# Altium schematic symbol library analog_opamp.SchLib: 10 symbols
Pins are listed as number, name and electrical type; pins without a type are passive.

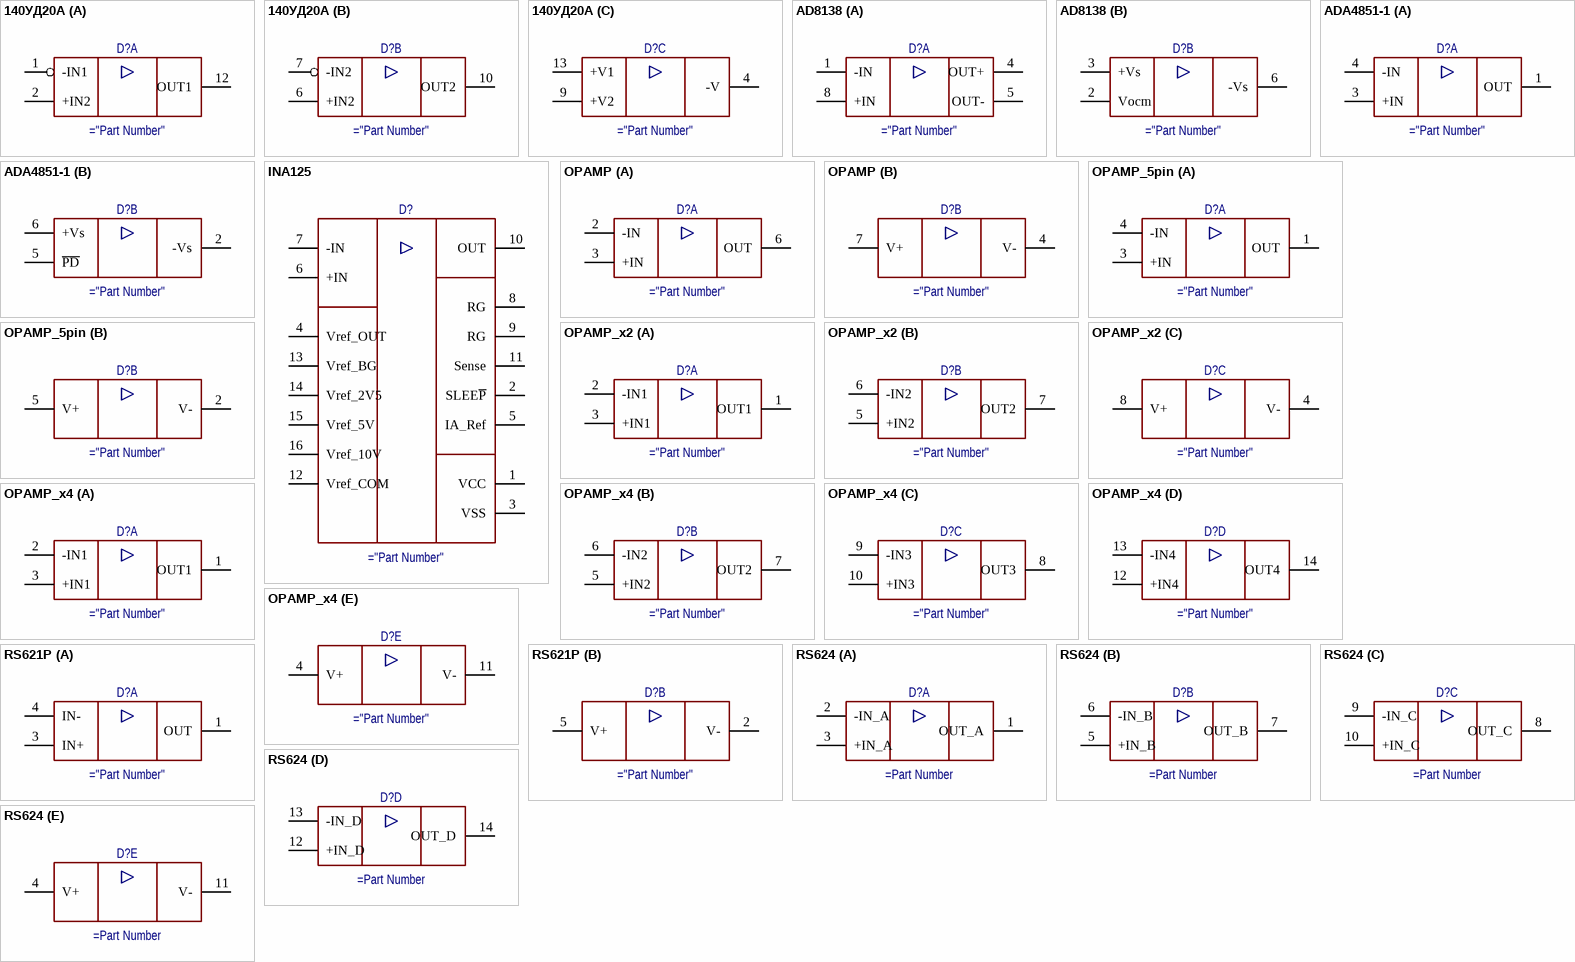
[diagram p0: symbols 140УД20А to RS624]

## 140УД20А
designator D?
OPAMP
part A pins: 1 -IN1, 2 +IN2, 12 OUT1
part B pins: 6 +IN2, 7 -IN2, 10 OUT2
part C pins: 4 -V, 9 +V2, 13 +V1

## AD8138
designator D?
Differential OPAMP; ComponentLink1Description: Datasheet; ComponentLink1URL: https://static.chipdip.ru/lib/428/DOC011428374.pdf
footprint SOT-23-6
part A pins: 1 -IN, 4 OUT+, 5 OUT-, 8 +IN
part B pins: 2 Vocm, 3 +Vs, 6 -Vs

## ADA4851-1
designator D?
OPAMP; ComponentLink1Description: Datasheet; ComponentLink1URL: https://static.chipdip.ru/lib/428/DOC011428374.pdf
footprint SOT-23-6
part A pins: 1 OUT, 3 +IN, 4 -IN
part B pins: 2 -Vs, 5 ~{PD}, 6 +Vs

## INA125
designator D?
Instrumentation OPAMP
pins: 1 VCC, 2 SLEE~{P}, 3 VSS, 4 Vref_OUT, 5 IA_Ref, 6 +IN, 7 -IN, 8 RG, 9 RG, 10 OUT, 11 Sense, 12 Vref_COM, 13 Vref_BG, 14 Vref_2V5, 15 Vref_5V, 16 Vref_10V

## OPAMP
designator D?
Generic OPAMP, 8pin
part A pins: 2 -IN, 3 +IN, 6 OUT
part B pins: 4 V-, 7 V+

## OPAMP_5pin
designator D?
Generic OPAMP, 5pin
part A pins: 1 OUT, 3 +IN, 4 -IN
part B pins: 2 V-, 5 V+

## OPAMP_x2
designator D?
Generic OPAMP 2ch
part A pins: 1 OUT1, 2 -IN1, 3 +IN1
part B pins: 5 +IN2, 6 -IN2, 7 OUT2
part C pins: 4 V-, 8 V+

## OPAMP_x4
designator D?
Generic OPAMP 4ch
part A pins: 1 OUT1, 2 -IN1, 3 +IN1
part B pins: 5 +IN2, 6 -IN2, 7 OUT2
part C pins: 8 OUT3, 9 -IN3, 10 +IN3
part D pins: 12 +IN4, 13 -IN4, 14 OUT4
part E pins: 4 V+, 11 V-

## RS621P
designator D?
OPAMP
part A pins: 1 OUT, 3 IN+, 4 IN-
part B pins: 2 V-, 5 V+

## RS624
designator D?
OPAMP; PartNumber: RS624P
footprint SOIC127P600x860x150_HS-14N (SOIC, 14-Leads, Body 8,65x3,90mm, Pitch 1,27mm, IPC Medium Density)
part A pins: 1 OUT_A, 2 -IN_A, 3 +IN_A
part B pins: 5 +IN_B, 6 -IN_B, 7 OUT_B
part C pins: 8 OUT_C, 9 -IN_C, 10 +IN_C
part D pins: 12 +IN_D, 13 -IN_D, 14 OUT_D
part E pins: 4 V+, 11 V-